# Altium schematic symbol library GE-MIX.Schlib: 1 symbol
Pins are listed as number, name and electrical type; pins without a type are passive.

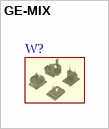
[diagram p0: symbol GE-MIX]

## GE-MIX
designator W?, comment Worldwide plugs for power supply  (value not drawn)  (mechanical)